# EAGLE library part 687132149022 (library Eagle_FPC_CONNECTOR_AND_FFC_CAB (rev18c))
WR-FPC 0.50mm SMT Horiz. Bot. Contact Hinge type WR-FPC 0.50mm 32 pins Hinge type SMT Horizontal Bottom Contact ;=>Code : Con_FPC_ZIF_0.50_6871xx149022_687132149022 <http://katalog.we-online.de/media/images/eican/Con_FPC_ZIF_0.50_687115149022_pf2.jpg> Details see: http://katalog.we-online.de/em/datasheet/6871xx149022.pdf Created 2014-10-08, Karrer Zheng 2014 (C) Wurth Elektronik
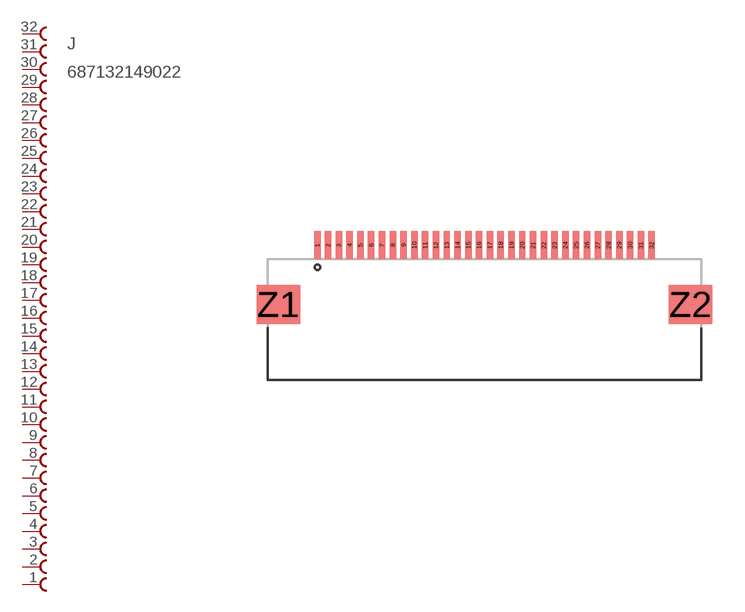
[diagram p118: symbol with the pads of 687132149022; footprint 687132149022]

Designator prefix J

## 687132149022  [687132149022]
1  32  pas
2  31  pas
3  30  pas
4  29  pas
5  28  pas
6  27  pas
7  26  pas
8  25  pas
9  24  pas
10  23  pas
11  22  pas
12  21  pas
13  20  pas
14  19  pas
15  18  pas
16  17  pas
17  16  pas
18  15  pas
19  14  pas
20  13  pas
21  12  pas
22  11  pas
23  10  pas
24  9  pas
25  8  pas
26  7  pas
27  6  pas
28  5  pas
29  4  pas
30  3  pas
31  2  pas
32  1  pas

## Footprint 687132149022 (pad centres in mm)
WR-FPC 0.50mm SMT Horiz. Bot. Contact Hinge type WR-FPC 0.50mm 32pins Hinge type SMT Horizontal Bottom Contact
smd 0.3 x 1.3: 1 -7.75,0; 2 -7.25,0; 3 -6.75,0; 4 -6.25,0; 5 -5.75,0; 6 -5.25,0; 7 -4.75,0; 8 -4.25,0; 9 -3.75,0; 10 -3.25,0; 11 -2.75,0; 12 -2.25,0; 13 -1.75,0; 14 -1.25,0; 15 -0.75,0; 16 -0.25,0; 17 0.25,0; 18 0.75,0; 19 1.25,0; 20 1.75,0; 21 2.25,0; 22 2.75,0; 23 3.25,0; 24 3.75,0; 25 4.25,0; 26 4.75,0; 27 5.25,0; 28 5.75,0; 29 6.25,0; 30 6.75,0; 31 7.25,0; 32 7.75,0
smd 2 x 1.8: Z1 -9.55,-2.75; Z2 9.55,-2.75